# Altium footprint library pinhead.PCBLIB: 100 footprints (part 4 of 7)
Each footprint in its own frame and in the unit in brackets; x right, y up, seen from the top. Pads: shape width x height; smd on the part's side, far side on the other; paste and mask are expansions set on the pad; w line width, h text height; cw(c..) or ccw(c..) is an arc to the next point about the centre after c.
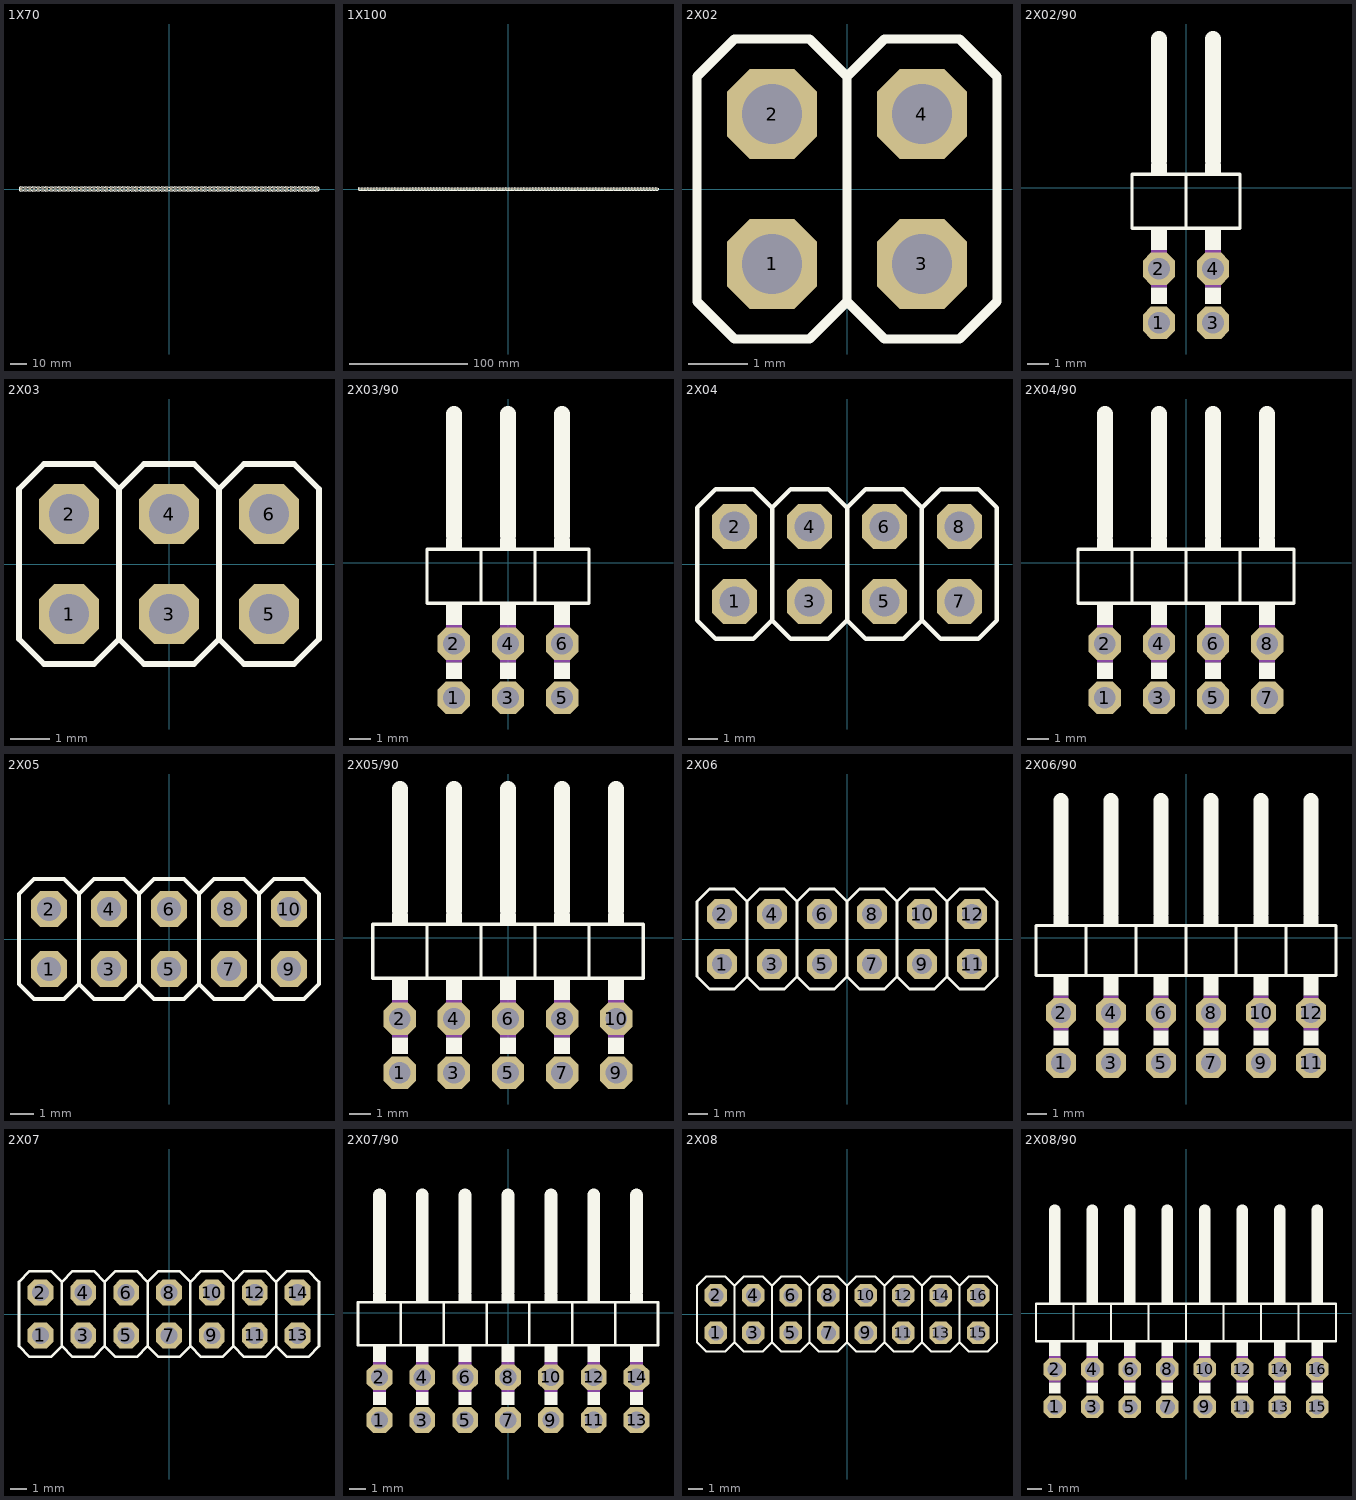
[diagram p3: the footprints below, top view; thin cyan lines are the x and y axes]

## 1X70 [mil]
pads (70):
  round 60 hole 40: 1(-3450,0) 2(-3350,0) 3(-3250,0) 4(-3150,0) 5(-3050,0) 6(-2950,0) 7(-2850,0) 8(-2750,0) 9(-2650,0) 10(-2550,0) 11(-2450,0) 12(-2350,0) 13(-2250,0) 14(-2150,0) 15(-2050,0) 16(-1950,0) 17(-1850,0) 18(-1750,0) 19(-1650,0) 20(-1550,0) 21(-1450,0) 22(-1350,0) 23(-1250,0) 24(-1150,0) 25(-1050,0) 26(-950,0) 27(-850,0) 28(-750,0) 29(-650,0) 30(-550,0) 31(-450,0) 32(-350,0) 33(-250,0) 34(-150,0) 35(-50,0) 36(50,0) 37(150,0) 38(250,0) 39(350,0) 40(450,0) 41(550,0) 42(650,0) 43(750,0) 44(850,0) 45(950,0) 46(1050,0) 47(1150,0) 48(1250,0) 49(1350,0) 50(1450,0) 51(1550,0) 52(1650,0) 53(1750,0) 54(1850,0) 55(1950,0) 56(2050,0) 57(2150,0) 58(2250,0) 59(2350,0) 60(2450,0) 61(2550,0) 62(2650,0) 63(2750,0) 64(2850,0) 65(2950,0) 66(3050,0) 67(3150,0) 68(3250,0) 69(3350,0) 70(3450,0)
Top Overlay:
  drawing of 422 lines, arcs and shapes, not listed
Mechanical 16:
  rectangle: -1660,-10 -1640,10
  rectangle: -1760,-10 -1740,10
  rectangle: -1860,-10 -1840,10
  rectangle: -1960,-10 -1940,10
  rectangle: -2060,-10 -2040,10
  rectangle: -2160,-10 -2140,10
  rectangle: -2260,-10 -2240,10
  rectangle: -2360,-10 -2340,10
  rectangle: -2460,-10 -2440,10
  rectangle: -2560,-10 -2540,10
  rectangle: -2660,-10 -2640,10
  rectangle: -2760,-10 -2740,10
  rectangle: -2860,-10 -2840,10
  rectangle: -2960,-10 -2940,10
  rectangle: -3060,-10 -3040,10
  rectangle: -3160,-10 -3140,10
  rectangle: -3260,-10 -3240,10
  rectangle: -3360,-10 -3340,10
  rectangle: -3460,-10 -3440,10
  rectangle: -1560,-10 -1540,10
  rectangle: -1460,-10 -1440,10
  rectangle: -1360,-10 -1340,10
  rectangle: -1260,-10 -1240,10
  rectangle: -1160,-10 -1140,10
  rectangle: -1060,-10 -1040,10
  rectangle: -960,-10 -940,10
  rectangle: -860,-10 -840,10
  rectangle: -760,-10 -740,10
  rectangle: -660,-10 -640,10
  rectangle: -560,-10 -540,10
  rectangle: 440,-10 460,10
  rectangle: 340,-10 360,10
  rectangle: 240,-10 260,10
  rectangle: 140,-10 160,10
  rectangle: 40,-10 60,10
  rectangle: -60,-10 -40,10
  rectangle: -160,-10 -140,10
  rectangle: -260,-10 -240,10
  rectangle: -360,-10 -340,10
  rectangle: -460,-10 -440,10
  rectangle: 2340,-10 2360,10
  rectangle: 2240,-10 2260,10
  rectangle: 2140,-10 2160,10
  rectangle: 2040,-10 2060,10
  rectangle: 1940,-10 1960,10
  rectangle: 1840,-10 1860,10
  rectangle: 1740,-10 1760,10
  rectangle: 1640,-10 1660,10
  rectangle: 1540,-10 1560,10
  rectangle: 1440,-10 1460,10
  rectangle: 1340,-10 1360,10
  rectangle: 1240,-10 1260,10
  rectangle: 1140,-10 1160,10
  rectangle: 1040,-10 1060,10
  rectangle: 940,-10 960,10
  rectangle: 840,-10 860,10
  rectangle: 740,-10 760,10
  rectangle: 640,-10 660,10
  rectangle: 540,-10 560,10
  rectangle: 2440,-10 2460,10
  rectangle: 2540,-10 2560,10
  rectangle: 2640,-10 2660,10
  rectangle: 2740,-10 2760,10
  rectangle: 2840,-10 2860,10
  rectangle: 2940,-10 2960,10
  rectangle: 3040,-10 3060,10
  rectangle: 3140,-10 3160,10
  rectangle: 3240,-10 3260,10
  rectangle: 3340,-10 3360,10
  rectangle: 3440,-10 3460,10

## 1X100 [mil]
pads (100):
  round 60 hole 40: 1(-4950,0) 2(-4850,0) 3(-4750,0) 4(-4650,0) 5(-4550,0) 6(-4450,0) 7(-4350,0) 8(-4250,0) 9(-4150,0) 10(-4050,0) 11(-3950,0) 12(-3850,0) 13(-3750,0) 14(-3650,0) 15(-3550,0) 16(-3450,0) 17(-3350,0) 18(-3250,0) 19(-3150,0) 20(-3050,0) 21(-2950,0) 22(-2850,0) 23(-2750,0) 24(-2650,0) 25(-2550,0) 26(-2450,0) 27(-2350,0) 28(-2250,0) 29(-2150,0) 30(-2050,0) 31(-1950,0) 32(-1850,0) 33(-1750,0) 34(-1650,0) 35(-1550,0) 36(-1450,0) 37(-1350,0) 38(-1250,0) 39(-1150,0) 40(-1050,0) 41(-950,0) 42(-850,0) 43(-750,0) 44(-650,0) 45(-550,0) 46(-450,0) 47(-350,0) 48(-250,0) 49(-150,0) 50(-50,0) 51(50,0) 52(150,0) 53(250,0) 54(350,0) 55(450,0) 56(550,0) 57(650,0) 58(750,0) 59(850,0) 60(950,0) 61(1050,0) 62(1150,0) 63(1250,0) 64(1350,0) 65(1450,0) 66(1550,0) 67(1650,0) 68(1750,0) 69(1850,0) 70(1950,0) 71(2050,0) 72(2150,0) 73(2250,0) 74(2350,0) 75(2450,0) 76(2550,0) 77(2650,0) 78(2750,0) 79(2850,0) 80(2950,0) 81(3050,0) 82(3150,0) 83(3250,0) 84(3350,0) 85(3450,0) 86(3550,0) 87(3650,0) 88(3750,0) 89(3850,0) 90(3950,0) 91(4050,0) 92(4150,0) 93(4250,0) 94(4350,0) 95(4450,0) 96(4550,0) 97(4650,0) 98(4750,0) 99(4850,0) 100(4950,0)
Top Overlay:
  drawing of 602 lines, arcs and shapes, not listed
Mechanical 16:
  rectangle: -3160,-10 -3140,10
  rectangle: -3260,-10 -3240,10
  rectangle: -3360,-10 -3340,10
  rectangle: -3460,-10 -3440,10
  rectangle: -3560,-10 -3540,10
  rectangle: -3660,-10 -3640,10
  rectangle: -3760,-10 -3740,10
  rectangle: -3860,-10 -3840,10
  rectangle: -3960,-10 -3940,10
  rectangle: -4060,-10 -4040,10
  rectangle: -4160,-10 -4140,10
  rectangle: -4260,-10 -4240,10
  rectangle: -4360,-10 -4340,10
  rectangle: -4460,-10 -4440,10
  rectangle: -4560,-10 -4540,10
  rectangle: -4660,-10 -4640,10
  rectangle: -4760,-10 -4740,10
  rectangle: -4860,-10 -4840,10
  rectangle: -4960,-10 -4940,10
  rectangle: -3060,-10 -3040,10
  rectangle: -2960,-10 -2940,10
  rectangle: -2860,-10 -2840,10
  rectangle: -2760,-10 -2740,10
  rectangle: -2660,-10 -2640,10
  rectangle: -2560,-10 -2540,10
  rectangle: -2460,-10 -2440,10
  rectangle: -2360,-10 -2340,10
  rectangle: -2260,-10 -2240,10
  rectangle: -2160,-10 -2140,10
  rectangle: -2060,-10 -2040,10
  rectangle: -1060,-10 -1040,10
  rectangle: -1160,-10 -1140,10
  rectangle: -1260,-10 -1240,10
  rectangle: -1360,-10 -1340,10
  rectangle: -1460,-10 -1440,10
  rectangle: -1560,-10 -1540,10
  rectangle: -1660,-10 -1640,10
  rectangle: -1760,-10 -1740,10
  rectangle: -1860,-10 -1840,10
  rectangle: -1960,-10 -1940,10
  rectangle: 840,-10 860,10
  rectangle: 740,-10 760,10
  rectangle: 640,-10 660,10
  rectangle: 540,-10 560,10
  rectangle: 440,-10 460,10
  rectangle: 340,-10 360,10
  rectangle: 240,-10 260,10
  rectangle: 140,-10 160,10
  rectangle: 40,-10 60,10
  rectangle: -60,-10 -40,10
  rectangle: -160,-10 -140,10
  rectangle: -260,-10 -240,10
  rectangle: -360,-10 -340,10
  rectangle: -460,-10 -440,10
  rectangle: -560,-10 -540,10
  rectangle: -660,-10 -640,10
  rectangle: -760,-10 -740,10
  rectangle: -860,-10 -840,10
  rectangle: -960,-10 -940,10
  rectangle: 940,-10 960,10
  rectangle: 1040,-10 1060,10
  rectangle: 1140,-10 1160,10
  rectangle: 1240,-10 1260,10
  rectangle: 1340,-10 1360,10
  rectangle: 1440,-10 1460,10
  rectangle: 1540,-10 1560,10
  rectangle: 1640,-10 1660,10
  rectangle: 1740,-10 1760,10
  rectangle: 1840,-10 1860,10
  rectangle: 1940,-10 1960,10
  rectangle: 3840,-10 3860,10
  rectangle: 3740,-10 3760,10
  rectangle: 3640,-10 3660,10
  rectangle: 3540,-10 3560,10
  rectangle: 3440,-10 3460,10
  rectangle: 3340,-10 3360,10
  rectangle: 3240,-10 3260,10
  rectangle: 3140,-10 3160,10
  rectangle: 3040,-10 3060,10
  rectangle: 2940,-10 2960,10
  rectangle: 2840,-10 2860,10
  rectangle: 2740,-10 2760,10
  rectangle: 2640,-10 2660,10
  rectangle: 2540,-10 2560,10
  rectangle: 2440,-10 2460,10
  rectangle: 2340,-10 2360,10
  rectangle: 2240,-10 2260,10
  rectangle: 2140,-10 2160,10
  rectangle: 2040,-10 2060,10
  rectangle: 3940,-10 3960,10
  rectangle: 4040,-10 4060,10
  rectangle: 4140,-10 4160,10
  rectangle: 4240,-10 4260,10
  rectangle: 4340,-10 4360,10
  rectangle: 4440,-10 4460,10
  rectangle: 4540,-10 4560,10
  rectangle: 4640,-10 4660,10
  rectangle: 4740,-10 4760,10
  rectangle: 4840,-10 4860,10
  rectangle: 4940,-10 4960,10

## 2X02 [mil]
pads (4):
  oct 60x60 hole 40: 1(-50,-50) 2(-50,50) 3(50,-50) 4(50,50)
Top Overlay:
  lines w6: 0,-75 -25,-100 -75,-100 -100,-75 -100,75 -75,100 -25,100 0,75 ; 0,-75 25,-100 75,-100 100,-75 100,75 75,100 25,100 0,75 ; 0,-75 0,75
Mechanical 16:
  rectangle: -60,-60 -40,-40
  rectangle: -60,40 -40,60
  rectangle: 40,40 60,60
  rectangle: 40,-60 60,-40

## 2X02/90 [mil]
pads (4):
  oct 60x60 hole 40: 1(-50,-250) 2(-50,-150) 3(50,-250) 4(50,-150)
Top Overlay:
  rectangle: -65,25 -35,45
  rectangle: 35,25 65,45
  rectangle: -65,-115 -35,-75
  rectangle: 35,-115 65,-75
  rectangle: -65,-215 -35,-185
  rectangle: 35,-215 65,-185
  lines w6: 0,-75 -100,-75 -100,25 0,25 ; 0,-75 0,25 ; 0,-75 100,-75 100,25 0,25
  lines w30: -50,50 -50,275 ; 50,50 50,275
Mechanical 16:
  rectangle: -65,-185 -35,-115
  rectangle: 35,-185 65,-115

## 2X03 [mil]
pads (6):
  oct 60x60 hole 40: 1(-100,-50) 2(-100,50) 3(0,-50) 4(0,50) 5(100,-50) 6(100,50)
Top Overlay:
  lines w6: -50,-75 -75,-100 -125,-100 -150,-75 -150,75 -125,100 -75,100 -50,75 ; -50,-75 -25,-100 25,-100 50,-75 ; -50,-75 -50,75 ; -50,75 -25,100 25,100 50,75 ; 50,-75 50,75 ; 50,-75 75,-100 125,-100 150,-75 150,75 125,100 75,100 50,75
Mechanical 16:
  rectangle: -110,-60 -90,-40
  rectangle: -110,40 -90,60
  rectangle: -10,40 10,60
  rectangle: -10,-60 10,-40
  rectangle: 90,40 110,60
  rectangle: 90,-60 110,-40

## 2X03/90 [mil]
pads (6):
  oct 60x60 hole 40: 1(-100,-250) 2(-100,-150) 3(0,-250) 4(0,-150) 5(100,-250) 6(100,-150)
Top Overlay:
  rectangle: -115,25 -85,45
  rectangle: -15,25 15,45
  rectangle: 85,25 115,45
  rectangle: -115,-115 -85,-75
  rectangle: -15,-115 15,-75
  rectangle: -115,-215 -85,-185
  rectangle: -15,-215 15,-185
  rectangle: 85,-115 115,-75
  rectangle: 85,-215 115,-185
  lines w6: -50,-75 -150,-75 -150,25 -50,25 ; -50,-75 -50,25 ; -50,-75 50,-75 ; -50,25 50,25 ; 50,-75 50,25 ; 50,-75 150,-75 150,25 50,25
  lines w30: -100,50 -100,275 ; 0,50 0,275 ; 100,50 100,275
Mechanical 16:
  rectangle: -115,-185 -85,-115
  rectangle: -15,-185 15,-115
  rectangle: 85,-185 115,-115

## 2X04 [mil]
pads (8):
  oct 60x60 hole 40: 1(-150,-50) 2(-150,50) 3(-50,-50) 4(-50,50) 5(50,-50) 6(50,50) 7(150,-50) 8(150,50)
Top Overlay:
  lines w6: -100,-75 -125,-100 -175,-100 -200,-75 -200,75 -175,100 -125,100 -100,75 ; -100,-75 -75,-100 -25,-100 0,-75 ; -100,-75 -100,75 ; -100,75 -75,100 -25,100 0,75 ; 0,-75 25,-100 75,-100 100,-75 ; 0,-75 0,75 ; 0,75 25,100 75,100 100,75 ; 100,-75 100,75 ; 100,-75 125,-100 175,-100 200,-75 200,75 175,100 125,100 100,75
Mechanical 16:
  rectangle: -160,-60 -140,-40
  rectangle: -160,40 -140,60
  rectangle: -60,40 -40,60
  rectangle: -60,-60 -40,-40
  rectangle: 40,40 60,60
  rectangle: 40,-60 60,-40
  rectangle: 140,40 160,60
  rectangle: 140,-60 160,-40

## 2X04/90 [mil]
pads (8):
  oct 60x60 hole 40: 1(-150,-250) 2(-150,-150) 3(-50,-250) 4(-50,-150) 5(50,-250) 6(50,-150) 7(150,-250) 8(150,-150)
Top Overlay:
  rectangle: -165,25 -135,45
  rectangle: -65,25 -35,45
  rectangle: 35,25 65,45
  rectangle: 135,25 165,45
  rectangle: -165,-115 -135,-75
  rectangle: -65,-115 -35,-75
  rectangle: -165,-215 -135,-185
  rectangle: -65,-215 -35,-185
  rectangle: 35,-115 65,-75
  rectangle: 135,-115 165,-75
  rectangle: 35,-215 65,-185
  rectangle: 135,-215 165,-185
  lines w6: -100,-75 -200,-75 -200,25 -100,25 ; -100,-75 -100,25 ; -100,-75 0,-75 ; -100,25 0,25 ; 0,-75 0,25 ; 0,-75 100,-75 ; 0,25 100,25 ; 100,-75 100,25 ; 100,-75 200,-75 200,25 100,25
  lines w30: -150,50 -150,275 ; -50,50 -50,275 ; 50,50 50,275 ; 150,50 150,275
Mechanical 16:
  rectangle: -165,-185 -135,-115
  rectangle: -65,-185 -35,-115
  rectangle: 35,-185 65,-115
  rectangle: 135,-185 165,-115

## 2X05 [mil]
pads (10):
  oct 60x60 hole 40: 1(-200,-50) 2(-200,50) 3(-100,-50) 4(-100,50) 5(0,-50) 6(0,50) 7(100,-50) 8(100,50) 9(200,-50) 10(200,50)
Top Overlay:
  lines w6: -150,-75 -175,-100 -225,-100 -250,-75 -250,75 -225,100 -175,100 -150,75 ; -150,-75 -125,-100 -75,-100 -50,-75 ; -150,-75 -150,75 ; -150,75 -125,100 -75,100 -50,75 ; -50,-75 -25,-100 25,-100 50,-75 ; -50,-75 -50,75 ; -50,75 -25,100 25,100 50,75 ; 50,-75 75,-100 125,-100 150,-75 ; 50,-75 50,75 ; 50,75 75,100 125,100 150,75 ; 150,-75 150,75 ; 150,-75 175,-100 225,-100 250,-75 250,75 225,100 175,100 150,75
Mechanical 16:
  rectangle: -210,-60 -190,-40
  rectangle: -210,40 -190,60
  rectangle: -110,40 -90,60
  rectangle: -110,-60 -90,-40
  rectangle: -10,40 10,60
  rectangle: -10,-60 10,-40
  rectangle: 90,40 110,60
  rectangle: 90,-60 110,-40
  rectangle: 190,40 210,60
  rectangle: 190,-60 210,-40

## 2X05/90 [mil]
pads (10):
  oct 60x60 hole 40: 1(-200,-250) 2(-200,-150) 3(-100,-250) 4(-100,-150) 5(0,-250) 6(0,-150) 7(100,-250) 8(100,-150) 9(200,-250) 10(200,-150)
Top Overlay:
  rectangle: -215,25 -185,45
  rectangle: -115,25 -85,45
  rectangle: -15,25 15,45
  rectangle: 85,25 115,45
  rectangle: 185,25 215,45
  rectangle: -215,-115 -185,-75
  rectangle: -115,-115 -85,-75
  rectangle: -215,-215 -185,-185
  rectangle: -115,-215 -85,-185
  rectangle: -15,-115 15,-75
  rectangle: 85,-115 115,-75
  rectangle: -15,-215 15,-185
  rectangle: 85,-215 115,-185
  rectangle: 185,-115 215,-75
  rectangle: 185,-215 215,-185
  lines w6: -150,-75 -250,-75 -250,25 -150,25 ; -150,-75 -150,25 ; -150,-75 -50,-75 ; -150,25 -50,25 ; -50,-75 -50,25 ; -50,-75 50,-75 ; -50,25 50,25 ; 50,-75 50,25 ; 50,-75 150,-75 ; 50,25 150,25 ; 150,-75 150,25 ; 150,-75 250,-75 250,25 150,25
  lines w30: -200,50 -200,275 ; -100,50 -100,275 ; 0,50 0,275 ; 100,50 100,275 ; 200,50 200,275
Mechanical 16:
  rectangle: -215,-185 -185,-115
  rectangle: -115,-185 -85,-115
  rectangle: -15,-185 15,-115
  rectangle: 85,-185 115,-115
  rectangle: 185,-185 215,-115

## 2X06 [mil]
pads (12):
  oct 60x60 hole 40: 1(-250,-50) 2(-250,50) 3(-150,-50) 4(-150,50) 5(-50,-50) 6(-50,50) 7(50,-50) 8(50,50) 9(150,-50) 10(150,50) 11(250,-50) 12(250,50)
Top Overlay:
  lines w6: -200,-75 -225,-100 -275,-100 -300,-75 -300,75 -275,100 -225,100 -200,75 ; -200,-75 -175,-100 -125,-100 -100,-75 ; -200,-75 -200,75 ; -200,75 -175,100 -125,100 -100,75 ; -100,-75 -75,-100 -25,-100 0,-75 ; -100,-75 -100,75 ; -100,75 -75,100 -25,100 0,75 ; 0,-75 25,-100 75,-100 100,-75 ; 0,-75 0,75 ; 0,75 25,100 75,100 100,75 ; 100,-75 125,-100 175,-100 200,-75 ; 100,-75 100,75 ; 100,75 125,100 175,100 200,75 ; 200,-75 200,75 ; 200,-75 225,-100 275,-100 300,-75 300,75 275,100 225,100 200,75
Mechanical 16:
  rectangle: -260,-60 -240,-40
  rectangle: -260,40 -240,60
  rectangle: -160,40 -140,60
  rectangle: -160,-60 -140,-40
  rectangle: -60,40 -40,60
  rectangle: -60,-60 -40,-40
  rectangle: 40,40 60,60
  rectangle: 140,40 160,60
  rectangle: 40,-60 60,-40
  rectangle: 140,-60 160,-40
  rectangle: 240,40 260,60
  rectangle: 240,-60 260,-40

## 2X06/90 [mil]
pads (12):
  oct 60x60 hole 40: 1(-250,-250) 2(-250,-150) 3(-150,-250) 4(-150,-150) 5(-50,-250) 6(-50,-150) 7(50,-250) 8(50,-150) 9(150,-250) 10(150,-150) 11(250,-250) 12(250,-150)
Top Overlay:
  rectangle: -265,25 -235,45
  rectangle: -165,25 -135,45
  rectangle: -65,25 -35,45
  rectangle: 35,25 65,45
  rectangle: 135,25 165,45
  rectangle: 235,25 265,45
  rectangle: -265,-115 -235,-75
  rectangle: -165,-115 -135,-75
  rectangle: -265,-215 -235,-185
  rectangle: -165,-215 -135,-185
  rectangle: -65,-115 -35,-75
  rectangle: 35,-115 65,-75
  rectangle: -65,-215 -35,-185
  rectangle: 35,-215 65,-185
  rectangle: 135,-115 165,-75
  rectangle: 235,-115 265,-75
  rectangle: 135,-215 165,-185
  rectangle: 235,-215 265,-185
  lines w6: -200,-75 -300,-75 -300,25 -200,25 ; -200,-75 -200,25 ; -200,-75 -100,-75 ; -200,25 -100,25 ; -100,-75 -100,25 ; -100,-75 0,-75 ; -100,25 0,25 ; 0,-75 0,25 ; 0,-75 100,-75 ; 0,25 100,25 ; 100,-75 100,25 ; 100,-75 200,-75 ; 100,25 200,25 ; 200,-75 200,25 ; 200,-75 300,-75 300,25 200,25
  lines w30: -250,50 -250,275 ; -150,50 -150,275 ; -50,50 -50,275 ; 50,50 50,275 ; 150,50 150,275 ; 250,50 250,275
Mechanical 16:
  rectangle: -265,-185 -235,-115
  rectangle: -165,-185 -135,-115
  rectangle: -65,-185 -35,-115
  rectangle: 35,-185 65,-115
  rectangle: 135,-185 165,-115
  rectangle: 235,-185 265,-115

## 2X07 [mil]
pads (14):
  oct 60x60 hole 40: 1(-300,-50) 2(-300,50) 3(-200,-50) 4(-200,50) 5(-100,-50) 6(-100,50) 7(0,-50) 8(0,50) 9(100,-50) 10(100,50) 11(200,-50) 12(200,50) 13(300,-50) 14(300,50)
Top Overlay:
  lines w6: -250,-75 -250,75 ; -250,-75 -225,-100 -175,-100 -150,-75 ; -250,-75 -275,-100 -325,-100 -350,-75 -350,75 -325,100 -275,100 -250,75 ; -250,75 -225,100 -175,100 -150,75 ; -150,-75 -150,75 ; -150,-75 -125,-100 -75,-100 -50,-75 ; -150,75 -125,100 -75,100 -50,75 ; -50,-75 -50,75 ; -50,-75 -25,-100 25,-100 50,-75 ; -50,75 -25,100 25,100 50,75 ; 50,-75 50,75 ; 50,-75 75,-100 125,-100 150,-75 ; 50,75 75,100 125,100 150,75 ; 150,-75 150,75 ; 150,-75 175,-100 225,-100 250,-75 ; 150,75 175,100 225,100 250,75 ; 250,-75 275,-100 325,-100 350,-75 350,75 325,100 275,100 250,75 ; 250,-75 250,75
Mechanical 16:
  rectangle: 290,-60 310,-40
  rectangle: 290,40 310,60
  rectangle: 190,-60 210,-40
  rectangle: 90,-60 110,-40
  rectangle: -10,-60 10,-40
  rectangle: 190,40 210,60
  rectangle: 90,40 110,60
  rectangle: -10,40 10,60
  rectangle: -110,-60 -90,-40
  rectangle: -110,40 -90,60
  rectangle: -210,-60 -190,-40
  rectangle: -210,40 -190,60
  rectangle: -310,40 -290,60
  rectangle: -310,-60 -290,-40
3D body: height 194.02, standoff -115.24, extent -350,-62.6 350,428.35

## 2X07/90 [mil]
pads (14):
  oct 60x60 hole 40: 1(-300,-250) 2(-300,-150) 3(-200,-250) 4(-200,-150) 5(-100,-250) 6(-100,-150) 7(0,-250) 8(0,-150) 9(100,-250) 10(100,-150) 11(200,-250) 12(200,-150) 13(300,-250) 14(300,-150)
Top Overlay:
  rectangle: -315,25 -285,45
  rectangle: -215,25 -185,45
  rectangle: -115,25 -85,45
  rectangle: -15,25 15,45
  rectangle: 85,25 115,45
  rectangle: 185,25 215,45
  rectangle: 285,25 315,45
  rectangle: -315,-115 -285,-75
  rectangle: -215,-115 -185,-75
  rectangle: -315,-215 -285,-185
  rectangle: -215,-215 -185,-185
  rectangle: -115,-115 -85,-75
  rectangle: -15,-115 15,-75
  rectangle: -115,-215 -85,-185
  rectangle: -15,-215 15,-185
  rectangle: 85,-115 115,-75
  rectangle: 185,-115 215,-75
  rectangle: 85,-215 115,-185
  rectangle: 185,-215 215,-185
  rectangle: 285,-115 315,-75
  rectangle: 285,-215 315,-185
  lines w6: -250,-75 -350,-75 -350,25 -250,25 ; -250,-75 -250,25 ; -250,-75 -150,-75 ; -250,25 -150,25 ; -150,-75 -150,25 ; -150,-75 -50,-75 ; -150,25 -50,25 ; -50,-75 -50,25 ; -50,-75 50,-75 ; -50,25 50,25 ; 50,-75 50,25 ; 50,-75 150,-75 ; 50,25 150,25 ; 150,-75 150,25 ; 150,-75 250,-75 ; 150,25 250,25 ; 250,-75 250,25 ; 250,-75 350,-75 350,25 250,25
  lines w30: -300,50 -300,275 ; -200,50 -200,275 ; -100,50 -100,275 ; 0,50 0,275 ; 100,50 100,275 ; 200,50 200,275 ; 300,50 300,275
Mechanical 16:
  rectangle: -315,-185 -285,-115
  rectangle: -215,-185 -185,-115
  rectangle: -115,-185 -85,-115
  rectangle: -15,-185 15,-115
  rectangle: 85,-185 115,-115
  rectangle: 185,-185 215,-115
  rectangle: 285,-185 315,-115
3D body: height 194.02, standoff -115.24, extent -350,-262.6 350,228.35

## 2X08 [mil]
pads (16):
  oct 60x60 hole 40: 1(-350,-50) 2(-350,50) 3(-250,-50) 4(-250,50) 5(-150,-50) 6(-150,50) 7(-50,-50) 8(-50,50) 9(50,-50) 10(50,50) 11(150,-50) 12(150,50) 13(250,-50) 14(250,50) 15(350,-50) 16(350,50)
Top Overlay:
  lines w6: -300,-75 -325,-100 -375,-100 -400,-75 -400,75 -375,100 -325,100 -300,75 ; -300,-75 -275,-100 -225,-100 -200,-75 ; -300,-75 -300,75 ; -300,75 -275,100 -225,100 -200,75 ; -200,-75 -175,-100 -125,-100 -100,-75 ; -200,-75 -200,75 ; -200,75 -175,100 -125,100 -100,75 ; -100,-75 -75,-100 -25,-100 0,-75 ; -100,-75 -100,75 ; -100,75 -75,100 -25,100 0,75 ; 0,-75 25,-100 75,-100 100,-75 ; 0,-75 0,75 ; 0,75 25,100 75,100 100,75 ; 100,-75 125,-100 175,-100 200,-75 ; 100,-75 100,75 ; 100,75 125,100 175,100 200,75 ; 200,-75 225,-100 275,-100 300,-75 ; 200,-75 200,75 ; 200,75 225,100 275,100 300,75 ; 300,-75 300,75 ; 300,-75 325,-100 375,-100 400,-75 400,75 375,100 325,100 300,75
Mechanical 16:
  rectangle: -360,-60 -340,-40
  rectangle: -360,40 -340,60
  rectangle: -260,40 -240,60
  rectangle: -260,-60 -240,-40
  rectangle: -160,40 -140,60
  rectangle: -160,-60 -140,-40
  rectangle: -60,40 -40,60
  rectangle: 40,40 60,60
  rectangle: 140,40 160,60
  rectangle: -60,-60 -40,-40
  rectangle: 40,-60 60,-40
  rectangle: 140,-60 160,-40
  rectangle: 240,40 260,60
  rectangle: 240,-60 260,-40
  rectangle: 340,40 360,60
  rectangle: 340,-60 360,-40

## 2X08/90 [mil]
pads (16):
  oct 60x60 hole 40: 1(-350,-250) 2(-350,-150) 3(-250,-250) 4(-250,-150) 5(-150,-250) 6(-150,-150) 7(-50,-250) 8(-50,-150) 9(50,-250) 10(50,-150) 11(150,-250) 12(150,-150) 13(250,-250) 14(250,-150) 15(350,-250) 16(350,-150)
Top Overlay:
  rectangle: -365,25 -335,45
  rectangle: -265,25 -235,45
  rectangle: -165,25 -135,45
  rectangle: -65,25 -35,45
  rectangle: 35,25 65,45
  rectangle: 135,25 165,45
  rectangle: 235,25 265,45
  rectangle: 335,25 365,45
  rectangle: -365,-115 -335,-75
  rectangle: -265,-115 -235,-75
  rectangle: -365,-215 -335,-185
  rectangle: -265,-215 -235,-185
  rectangle: -165,-115 -135,-75
  rectangle: -65,-115 -35,-75
  rectangle: -165,-215 -135,-185
  rectangle: -65,-215 -35,-185
  rectangle: 35,-115 65,-75
  rectangle: 135,-115 165,-75
  rectangle: 35,-215 65,-185
  rectangle: 135,-215 165,-185
  rectangle: 235,-115 265,-75
  rectangle: 335,-115 365,-75
  rectangle: 235,-215 265,-185
  rectangle: 335,-215 365,-185
  lines w6: -300,-75 -400,-75 -400,25 -300,25 ; -300,-75 -300,25 ; -300,-75 -200,-75 ; -300,25 -200,25 ; -200,-75 -200,25 ; -200,-75 -100,-75 ; -200,25 -100,25 ; -100,-75 -100,25 ; -100,-75 0,-75 ; -100,25 0,25 ; 0,-75 0,25 ; 0,-75 100,-75 ; 0,25 100,25 ; 100,-75 100,25 ; 100,-75 200,-75 ; 100,25 200,25 ; 200,-75 200,25 ; 200,-75 300,-75 ; 200,25 300,25 ; 300,-75 300,25 ; 300,-75 400,-75 400,25 300,25
  lines w30: -350,50 -350,275 ; -250,50 -250,275 ; -150,50 -150,275 ; -50,50 -50,275 ; 50,50 50,275 ; 150,50 150,275 ; 250,50 250,275 ; 350,50 350,275
Mechanical 16:
  rectangle: -365,-185 -335,-115
  rectangle: -265,-185 -235,-115
  rectangle: -165,-185 -135,-115
  rectangle: -65,-185 -35,-115
  rectangle: 35,-185 65,-115
  rectangle: 135,-185 165,-115
  rectangle: 235,-185 265,-115
  rectangle: 335,-185 365,-115